# Altium footprint library ADC.PcbLib: 1 footprints
Each footprint in its own frame and in the unit in brackets; x right, y up, seen from the top. Pads: shape width x height; smd on the part's side, far side on the other; paste and mask are expansions set on the pad; w line width, h text height; cw(c..) or ccw(c..) is an arc to the next point about the centre after c.
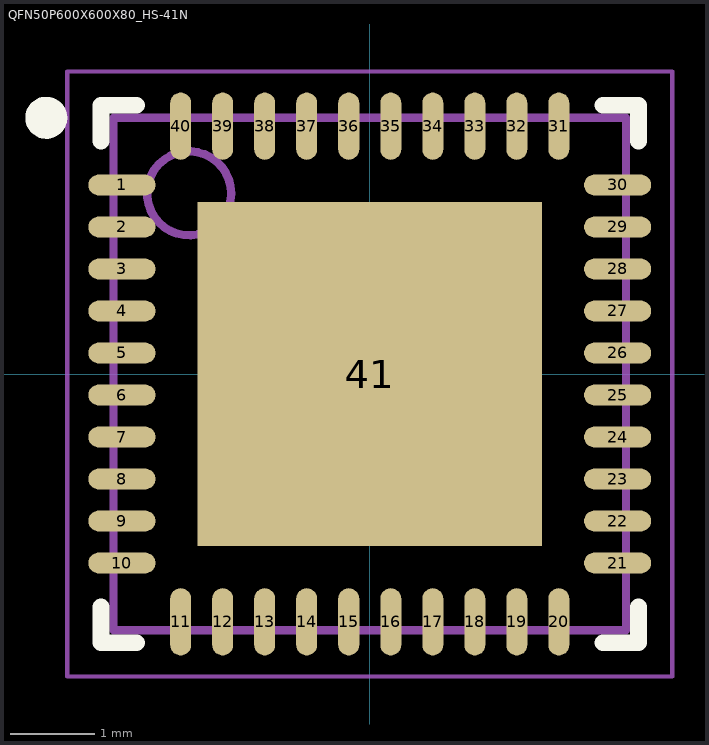
[diagram p0: the footprint, top view; thin cyan lines are the x and y axes]

## QFN50P600X600X80_HS-41N [mm] "QFN, 40-Leads, Body 6.00x6.00mm, Pitch 0.50mm, Thermal Pad 4.10x4.10mm, IPC Medium Density"
height 0.8
pads (41):
  oval 0.8x0.25 smd: 1(-2.95,2.25) 2(-2.95,1.75) 3(-2.95,1.25) 4(-2.95,0.75) 5(-2.95,0.25) 6(-2.95,-0.25) 7(-2.95,-0.75) 8(-2.95,-1.25) 9(-2.95,-1.75) 10(-2.95,-2.25) 21(2.95,-2.25) 22(2.95,-1.75) 23(2.95,-1.25) 24(2.95,-0.75) 25(2.95,-0.25) 26(2.95,0.25) 27(2.95,0.75) 28(2.95,1.25) 29(2.95,1.75) 30(2.95,2.25)
  oval 0.25x0.8 smd: 11(-2.25,-2.95) 12(-1.75,-2.95) 13(-1.25,-2.95) 14(-0.75,-2.95) 15(-0.25,-2.95) 16(0.25,-2.95) 17(0.75,-2.95) 18(1.25,-2.95) 19(1.75,-2.95) 20(2.25,-2.95) 31(2.25,2.95) 32(1.75,2.95) 33(1.25,2.95) 34(0.75,2.95) 35(0.25,2.95) 36(-0.25,2.95) 37(-0.75,2.95) 38(-1.25,2.95) 39(-1.75,2.95) 40(-2.25,2.95)
  rect 4.1x4.1 smd: 41(0,0)
Top Overlay:
  circle w0.25: c-3.85,3.05 r0.125
  lines w0.2: -3.2,-2.775 -3.2,-3.2 -2.775,-3.2 ; -3.2,2.775 -3.2,3.2 -2.775,3.2 ; 2.775,-3.2 3.2,-3.2 3.2,-2.775 ; 2.775,3.2 3.2,3.2 3.2,2.775
Mechanical 13:
  circle w0.1: c-2.15,2.15 r0.5
  lines w0.1: -3.05,-3.05 3.05,-3.05 3.05,3.05 -3.05,3.05 -3.05,-3.05
Mechanical 15:
  lines w0.05: -3.6,-3.6 3.6,-3.6 3.6,3.6 -3.6,3.6 -3.6,-3.6
  lines w0.1: -0.5,0 0.5,0 ; 0,-0.5 0,0.5
3D body: height 0.8, standoff 0, extent -3.05,-3.05 3.05,3.05